# Altium footprint library Connector_THT.PcbLib: 26 footprints (part 2 of 2)
Each footprint in its own frame and in the unit in brackets; x right, y up, seen from the top. Pads: shape width x height; smd on the part's side, far side on the other; paste and mask are expansions set on the pad; w line width, h text height; cw(c..) or ccw(c..) is an arc to the next point about the centre after c.
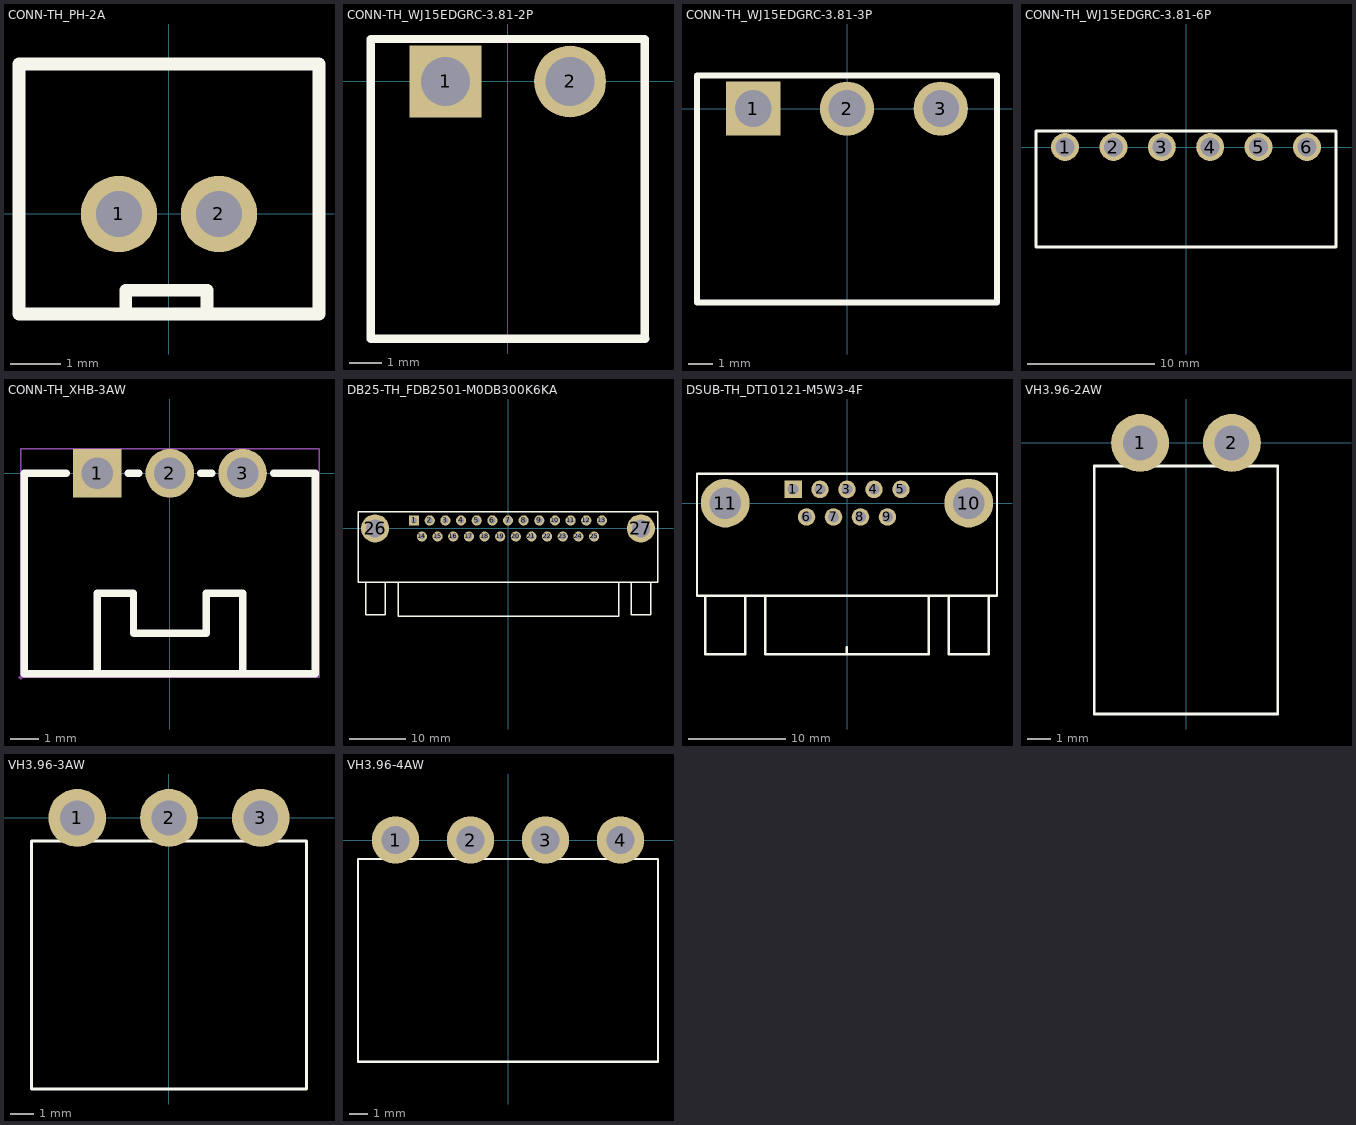
[diagram p1: the footprints below, top view; thin cyan lines are the x and y axes]

## CONN-TH_PH-2A [mil]
pads (2):
  round 60 hole 36: 1(-39.37,0) 2(39.37,0)
Top Overlay:
  lines w10: -34.06,-78.74 -34.06,-60 30,-60 30,-78.74 ; -118.09,-78.74 118.13,-78.74 118.13,118.11 -118.09,118.11 -118.09,-78.74
3D body "ph2.0-2p.stp": height 236.22, standoff -133.86, extent -118.11,-79.52 118.11,117.33

## CONN-TH_WJ15EDGRC-3.81-2P [mm]
pads (2):
  rect 2.2x2.2 hole 1.5: 1(-1.905,0)
  round 2.2 hole 1.5: 2(1.905,0)
Top Overlay:
  lines w0.254: -4.191,-7.88 -4.191,1.3 4.191,1.3 4.191,-7.874 ; -4.191,-7.874 4.205,-7.874

## CONN-TH_WJ15EDGRC-3.81-3P [mm]
pads (3):
  rect 2.2x2.2 hole 1.5: 1(-3.81,0)
  round 2.2 hole 1.5: 2(0,0) 3(3.81,0)
Top Overlay:
  lines w0.254: -6.096,-7.88 -6.096,1.27 ; -6.096,-7.874 6.096,-7.874 6.096,1.27 ; -6.096,1.35 6.096,1.35

## CONN-TH_WJ15EDGRC-3.81-6P [mm]
pads (6):
  round 2.2 hole 1.5: 1(-9.525,0) 2(-5.715,0) 3(-1.905,0) 4(1.905,0) 5(5.715,0) 6(9.525,0)
Top Overlay:
  lines w0.254: -11.811,-7.88 -11.811,1.27 11.811,1.27 11.811,-7.874 3.937,-7.874 -11.811,-7.874

## CONN-TH_XHB-3AW [mm]
pads (3):
  rect 1.699x1.699 hole 1.1 mask+0.051: 1(-2.54,0)
  round 1.699 hole 1.1 mask+0.051: 2(0,0) 3(2.54,0)
Top Overlay:
  lines w0.254: -3.622,0 -5.08,0 -5.08,-7 5.08,-7 5.08,0 3.622,0 ; -2.54,-6.985 -2.54,-4.191 -1.27,-4.191 -1.27,-5.588 1.27,-5.588 1.27,-4.191 2.54,-4.191 2.54,-6.985 ; -1.458,0 -1.082,0 ; 1.082,0 1.458,0
Mechanical 15:
  region: -5.146,-7.127 -5.146,-7.102 -5.182,-7.066 -5.232,-7.066 -5.268,-7.102 -5.268,-7.127 -5.268,-7.152 -5.232,-7.188 -5.182,-7.188 -5.146,-7.152 -5.146,-7.127
  region: 2.99,0 2.99,0.089 2.921,0.255 2.795,0.381 2.629,0.45 2.451,0.45 2.285,0.381 2.159,0.255 2.09,0.089 2.09,0 2.09,-0.089 2.159,-0.255 2.285,-0.381 2.451,-0.45 2.629,-0.45 2.795,-0.381 2.921,-0.255 2.99,-0.089 2.99,0
  region: 0.45,0 0.45,0.089 0.381,0.255 0.255,0.381 0.089,0.45 -0.089,0.45 -0.255,0.381 -0.381,0.255 -0.45,0.089 -0.45,0 -0.45,-0.089 -0.381,-0.255 -0.255,-0.381 -0.089,-0.45 0.089,-0.45 0.255,-0.381 0.381,-0.255 0.45,-0.089 0.45,0
  region: -2.09,0 -2.09,0.089 -2.159,0.255 -2.285,0.381 -2.451,0.45 -2.629,0.45 -2.795,0.381 -2.921,0.255 -2.99,0.089 -2.99,0 -2.99,-0.089 -2.921,-0.255 -2.795,-0.381 -2.629,-0.45 -2.451,-0.45 -2.285,-0.381 -2.159,-0.255 -2.09,-0.089 -2.09,0
  lines w0.051: -5.207,-7.127 -5.207,0.851 5.207,0.851 5.207,-7.127 -5.207,-7.127
3D body "3D_PCB1_2022-04-15.stp": height 6.55, standoff -3.3, extent -5,-7.209 5,0.311

## DB25-TH_FDB2501-M0DB300K6KA [mm]
pads (27):
  rect 1.8x1.8 hole 1.1: 1(-16.62,1.42)
  round 1.8 hole 1.1: 2(-13.85,1.42) 3(-11.08,1.42) 4(-8.31,1.42) 5(-5.54,1.42) 6(-2.77,1.42) 7(0,1.42) 8(2.77,1.42) 9(5.54,1.42) 10(8.31,1.42) 11(11.08,1.42) 12(13.85,1.42) 13(16.62,1.42) 14(-15.235,-1.42) 15(-12.465,-1.42) 16(-9.695,-1.42) 17(-6.925,-1.42) 18(-4.155,-1.42) 19(-1.385,-1.42) 20(1.385,-1.42) 21(4.155,-1.42) 22(6.925,-1.42) 23(9.695,-1.42) 24(12.465,-1.42) 25(15.235,-1.42)
  round 5 hole 3.2: 26(-23.52,0) 27(23.52,0)
Top Overlay:
  lines w0.254: -25.146,-9.525 -25.146,-15.24 -21.717,-15.24 -21.717,-9.525 ; -19.431,-9.652 -19.431,-15.494 19.558,-15.494 19.558,-9.525 ; 21.844,-9.525 21.844,-15.24 25.273,-15.24 25.273,-9.525 ; 26.543,0 26.543,2.921 ; 26.543,2.921 -26.543,2.921 -26.543,-9.525 26.543,-9.525 26.543,2.921
3D body "d25p13a4gx00lf.stp": height 13.55, standoff -3.1, extent -26.52,-17.45 26.52,3

## DSUB-TH_DT10121-M5W3-4F [mm]
pads (11):
  rect 1.8x1.8 hole 1.1: 1(-5.54,1.42)
  round 1.8 hole 1.1: 2(-2.77,1.42) 3(0,1.42) 4(2.77,1.42) 5(5.54,1.42) 6(-4.155,-1.42) 7(-1.385,-1.42) 8(1.385,-1.42) 9(4.155,-1.42)
  round 5 hole 3.25: 10(12.5,0) 11(-12.5,0)
Top Overlay:
  lines w0.254: -14.57,-15.5 -14.57,-9.5 ; -14.54,-15.5 -10.43,-15.5 -10.43,-9.5 ; -8.38,-9.5 -8.38,-15.5 8.37,-15.5 8.37,-9.5 ; -0.005,-15.48 -0.005,-14.78 ; 10.43,-15.5 10.43,-9.5 ; 10.46,-15.499 14.57,-15.499 14.57,-9.5 ; -15.4,-9.5 15.4,-9.5 15.4,3 -15.4,3 -15.4,-9.5

## VH3.96-2AW [mm]
pads (2):
  round 2.5 hole 1.5: 1(-1.98,0) 2(1.98,0)
Top Overlay:
  lines w0.127: -3.96,-11.7 -3.96,-1 3.96,-1 3.96,-11.7 -3.96,-11.7

## VH3.96-3AW [mm]
pads (3):
  round 2.5 hole 1.5: 1(-3.96,0) 2(0,0) 3(3.96,0)
Top Overlay:
  lines w0.127: -5.94,-11.7 5.94,-11.7 5.94,-1 -5.94,-1 -5.94,-11.7

## VH3.96-4AW [mm]
pads (4):
  round 2.5 hole 1.5: 1(-5.94,0) 2(-1.98,0) 3(1.98,0) 4(5.94,0)
Top Overlay:
  lines w0.127: -7.92,-11.7 7.92,-11.7 7.92,-1 -7.92,-1 -7.92,-11.7